# EAGLE library part 69131140008 (library Wuerth_Elektronik_eiCan_Terminal_Blocks_v2.0)
WR-TBL Serie 3114 - 7.62 mm Open Vertical PCB Header , 8 Pins
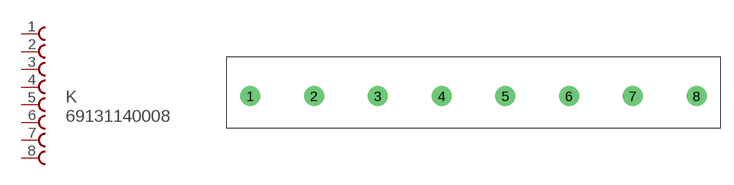
[diagram p184: symbol with the pads of 691311400008; footprint 691311400008]

Designator prefix K

## 69131140008  [691311400008]
1  1  pas
2  2  pas
3  3  pas
4  4  pas
5  5  pas
6  6  pas
7  7  pas
8  8  pas

## Footprint 691311400008 (pad centres in mm)
WR-TBL Serie 3114 - 7.62 mm Open Vertical PCB Header , 8 Pins
drill 1.6 round: 1 -15.24,0; 2 -7.62,0; 3 0,0; 4 7.62,0; 5 15.24,0; 6 22.86,0; 7 30.48,0; 8 38.1,0